# EAGLE library part DRV8818 (library logic-supply)
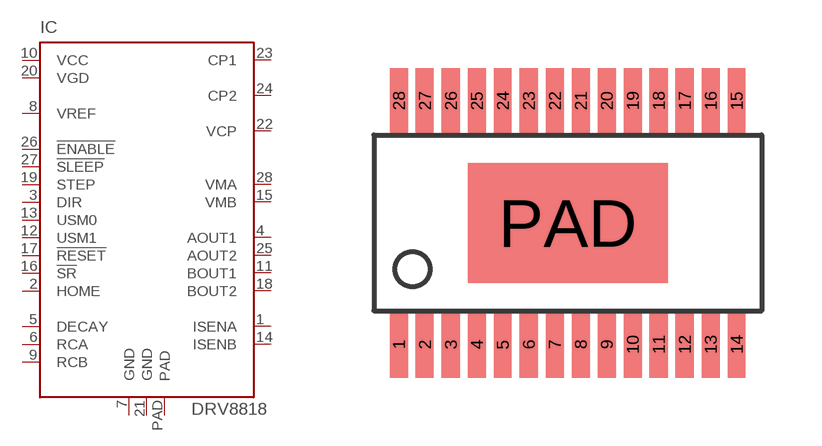
[diagram p24: symbol with the pads of TSSOP28_PAD; footprint TSSOP28_PAD]

Designator prefix IC

## DRV8818  [TSSOP28_PAD]
1  ISENA
2  HOME
3  DIR
4  AOUT1
5  DECAY
6  RCA
7  GND
8  VREF
9  RCB
10  VCC
11  BOUT1
12  USM1
13  USM0
14  ISENB
15  VMB
16  !SR
17  !RESET
18  BOUT2
19  STEP
20  VGD
21  GND
22  VCP
23  CP1
24  CP2
25  AOUT2
26  !ENABLE
27  !SLEEP
28  VMA
PAD  PAD

## Footprint TSSOP28_PAD (pad centres in mm)
smd 0.45 x 1.65: 1 -4.225,-3.05; 2 -3.575,-3.05; 3 -2.925,-3.05; 4 -2.275,-3.05; 5 -1.625,-3.05; 6 -0.975,-3.05; 7 -0.325,-3.05; 8 0.325,-3.05; 9 0.975,-3.05; 10 1.625,-3.05; 11 2.275,-3.05; 12 2.925,-3.05; 13 3.575,-3.05; 14 4.225,-3.05; 15 4.225,3.05; 16 3.575,3.05; 17 2.925,3.05; 18 2.275,3.05; 19 1.625,3.05; 20 0.975,3.05; 21 0.325,3.05; 22 -0.325,3.05; 23 -0.975,3.05; 24 -1.625,3.05; 25 -2.275,3.05; 26 -2.925,3.05; 27 -3.575,3.05; 28 -4.225,3.05
smd 5 x 3: PAD 0,0